# Altium integrated library Microchip PIC16 Part 1.IntLib: 1800 symbols (part 92 of 93)
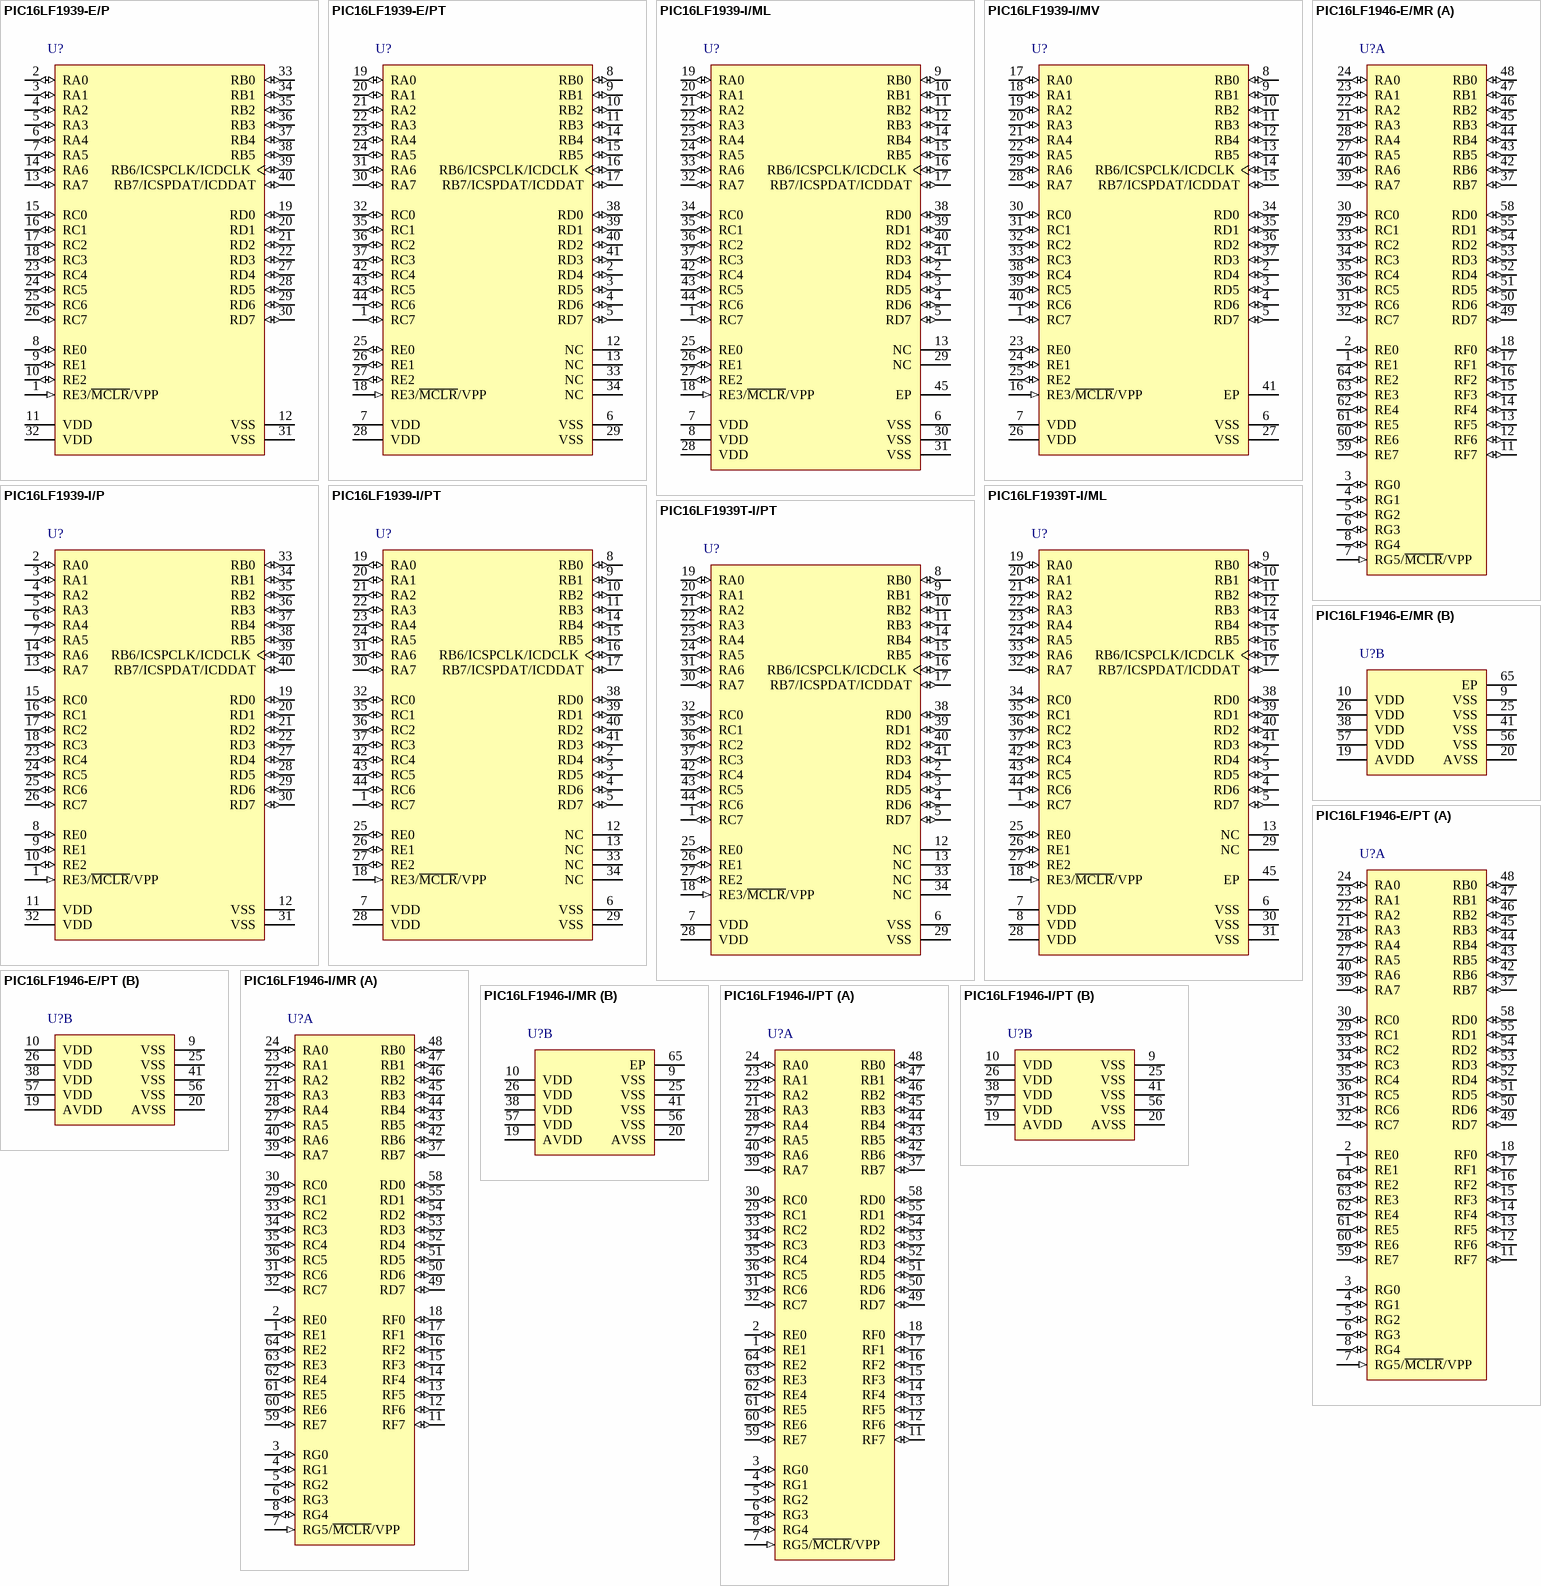
[diagram p190: symbols PIC16LF1939-E/P to PIC16LF1946-I/PT]

## PIC16LF1939-I/MV
designator U?
Flash-Based, 8-Bit CMOS Microcontroller with LCD Driver with nanoWatt XLP Technology, 32 MHz, 35 I/O, -40 to 85 degC, 40-pin UQFN (MV40), Tube; Manufacturer: Microchip; PartNumber: PIC16LF1939-I/MV; # of A/D Channels: 14; Digital Communication: 1 -A/E/USART, 1 -MSSP(SPI/I2C); EEPROM Data Memory (bytes): 256; I/O Pins: 35; Internal Oscillator: 32 MHz, 31 kHz; Max. CPU Speed MHz: 32; Memory Type: Flash; Operation Voltage Range: 1.8V - 3.6V; Program Memory KBytes: 28; Program Memory KWords: 16; RAM: 1024; Timers: 4 - 8-bit, 1 - 16-bit; DatasheetVersion: Rev. B; PackageVersion: C04-156A, 04/2013; PackageReference: UQFN-MV40; PackageDescription: 40-Lead Plastic Ultra Thin Quad Flat, No Lead Package, Body 5 x 5 mm, Pitch 0.4 mm; Supplier 1: Digi-Key; Supplier Part Number 1: PIC16LF1939-I/MV-ND; Supplier 2: Mouser; Supplier Part Number 2: 579-PIC16LF1939-I/MV; Packing: TUBE; Mounting Technology: Surface Mount; ComponentLink1Description: Datasheet; ComponentLink1URL: http://ww1.microchip.com/downloads/en/DeviceDoc/41574B.pdf; ComponentLink2Description: Package Specification; ComponentLink2URL: http://www.microchip.com/stellent/groups/techpub_sg/documents/packagingspec/en012702.pdf; ComponentLink3Description: URL Link1; ComponentLink3URL: Product URL:http://www.microchip.com/datasheet/PIC16F1939
footprint MCHP-UQFN-MV40_N (QFN, 40-Leads, Body 5x5mm, Pitch 0.4mm, Thermal Pad 3.7x3.7mm, IPC Medium Density)
footprint MCHP-UQFN-MV40_L (QFN, 40-Leads, Body 5x5mm, Pitch 0.4mm, Thermal Pad 3.7x3.7mm, IPC High Density)
footprint MCHP-UQFN-MV40_M (QFN, 40-Leads, Body 5x5mm, Pitch 0.4mm, Thermal Pad 3.7x3.7mm, IPC Low Density)
pins: 1 RC7 (io), 2 RD4 (io), 3 RD5 (io), 4 RD6 (io), 5 RD7 (io), 6 VSS (power) "Ground reference.", 7 VDD (power) "Positive supply.", 8 RB0 (io), 9 RB1 (io), 10 RB2 (io), 11 RB3 (io), 12 RB4 (io), 13 RB5 (io), 14 RB6/ICSPCLK/ICDCLK (io), 15 RB7/ICSPDAT/ICDDAT (io), 16 RE3/~{MCLR}/VPP (in), 17 RA0 (io), 18 RA1 (io), 19 RA2 (io), 20 RA3 (io), 21 RA4 (io), 22 RA5 (io), 23 RE0 (io), 24 RE1 (io), 25 RE2 (io), 26 VDD (power) "Positive supply.", 27 VSS (power) "Ground reference.", 28 RA7 (io), 29 RA6 (io), 30 RC0 (io), 31 RC1 (io), 32 RC2 (io), 33 RC3 (io), 34 RD0 (io), 35 RD1 (io), 36 RD2 (io), 37 RD3 (io), 38 RC4 (io), 39 RC5 (io), 40 RC6 (io), 41 EP

## PIC16LF1939-I/P
designator U?
Flash-Based, 8-Bit CMOS Microcontroller with LCD Driver with nanoWatt XLP Technology, 32 MHz, 35 I/O, -40 to 85 degC, 40-pin PDIP (P40), Tube; Manufacturer: Microchip; PartNumber: PIC16LF1939-I/P; # of A/D Channels: 14; Digital Communication: 1 -A/E/USART, 1 -MSSP(SPI/I2C); EEPROM Data Memory (bytes): 256; I/O Pins: 35; Internal Oscillator: 32 MHz, 31 kHz; Max. CPU Speed MHz: 32; Memory Type: Flash; Operation Voltage Range: 1.8V - 3.6V; Program Memory KBytes: 28; Program Memory KWords: 16; RAM: 1024; Timers: 4 - 8-bit, 1 - 16-bit; DatasheetVersion: Rev. B; PackageVersion: C04-016B, 04/2013; PackageReference: PDIP-P40; PackageDescription: 40-Lead Plastic Dual In-Line Package, Body 51.75 x 13.53 mm, Pitch 2.54 mm; Supplier 1: Digi-Key; Supplier Part Number 1: PIC16LF1939-I/P-ND; Supplier 2: Farnell; Supplier Part Number 2: 1770668; Supplier 3: Newark; Supplier Part Number 3: 08R1988; Supplier 4: Mouser; Supplier Part Number 4: 579-PIC16LF1939-I/P; Packing: TUBE; Mounting Technology: Through Hole; ComponentLink1Description: Datasheet; ComponentLink1URL: http://ww1.microchip.com/downloads/en/DeviceDoc/41574B.pdf; ComponentLink2Description: Package Specification; ComponentLink2URL: http://www.microchip.com/stellent/groups/techpub_sg/documents/packagingspec/en012702.pdf; ComponentLink3Description: URL Link1; ComponentLink3URL: Product URL:http://www.microchip.com/datasheet/PIC16F1939
footprint MCHP-PDIP-P40 (PDIP, 40-Leads, Body 51.75x13.53mm, Pitch 2.54mm)
pins: 1 RE3/~{MCLR}/VPP (in), 2 RA0 (io), 3 RA1 (io), 4 RA2 (io), 5 RA3 (io), 6 RA4 (io), 7 RA5 (io), 8 RE0 (io), 9 RE1 (io), 10 RE2 (io), 11 VDD (power) "Positive supply.", 12 VSS (power) "Ground reference.", 13 RA7 (io), 14 RA6 (io), 15 RC0 (io), 16 RC1 (io), 17 RC2 (io), 18 RC3 (io), 19 RD0 (io), 20 RD1 (io), 21 RD2 (io), 22 RD3 (io), 23 RC4 (io), 24 RC5 (io), 25 RC6 (io), 26 RC7 (io), 27 RD4 (io), 28 RD5 (io), 29 RD6 (io), 30 RD7 (io), 31 VSS (power) "Ground reference.", 32 VDD (power) "Positive supply.", 33 RB0 (io), 34 RB1 (io), 35 RB2 (io), 36 RB3 (io), 37 RB4 (io), 38 RB5 (io), 39 RB6/ICSPCLK/ICDCLK (io), 40 RB7/ICSPDAT/ICDDAT (io)

## PIC16LF1939-I/PT
designator U?
Flash-Based, 8-Bit CMOS Microcontroller with LCD Driver with nanoWatt XLP Technology, 32 MHz, 35 I/O, -40 to 85 degC, 44-pin TQFP (PT44), Tray; Manufacturer: Microchip; PartNumber: PIC16LF1939-I/PT; # of A/D Channels: 14; Digital Communication: 1 -A/E/USART, 1 -MSSP(SPI/I2C); EEPROM Data Memory (bytes): 256; I/O Pins: 35; Internal Oscillator: 32 MHz, 31 kHz; Max. CPU Speed MHz: 32; Memory Type: Flash; Operation Voltage Range: 1.8V - 3.6V; Program Memory KBytes: 28; Program Memory KWords: 16; RAM: 1024; Timers: 4 - 8-bit, 1 - 16-bit; DatasheetVersion: Rev. B; PackageVersion: C04-076B, 12/2012; PackageReference: TQFP-PT44; PackageDescription: 44-Lead Plastic Thin Quad Flatpack, 10 x 10 mm Body, 0.8 mm Pitch; Supplier 1: Digi-Key; Supplier Part Number 1: PIC16LF1939-I/PT-ND; Supplier 2: Farnell; Supplier Part Number 2: 1770669; Supplier 3: Farnell; Supplier Part Number 3: 1770669MPKG; Supplier 4: Newark; Supplier Part Number 4: 08R1989; Supplier 5: Mouser; Supplier Part Number 5: 579-PIC16LF1939-I/PT; Packing: TRAY; Mounting Technology: Surface Mount; ComponentLink1Description: Datasheet; ComponentLink1URL: http://ww1.microchip.com/downloads/en/DeviceDoc/41574B.pdf; ComponentLink2Description: Package Specification; ComponentLink2URL: http://www.microchip.com/stellent/groups/techpub_sg/documents/packagingspec/en012702.pdf; ComponentLink3Description: URL Link1; ComponentLink3URL: Product URL:http://www.microchip.com/datasheet/PIC16F1939
footprint MCHP-TQFP-PT44_N (QFN, 44-Leads, Body 10x10mm, Pitch 0.8mm, IPC Medium Density)
footprint MCHP-TQFP-PT44_L (QFN, 44-Leads, Body 10x10mm, Pitch 0.8mm, IPC High Density)
footprint MCHP-TQFP-PT44_M (QFN, 44-Leads, Body 10x10mm, Pitch 0.8mm, IPC Low Density)
pins: 1 RC7 (io), 2 RD4 (io), 3 RD5 (io), 4 RD6 (io), 5 RD7 (io), 6 VSS (power) "Ground reference for logic and I/O pins.", 7 VDD (power) "Positive supply for logic and I/O pins", 8 RB0 (io), 9 RB1 (io), 10 RB2 (io), 11 RB3 (io), 12 NC, 13 NC, 14 RB4 (io), 15 RB5 (io), 16 RB6/ICSPCLK/ICDCLK (io), 17 RB7/ICSPDAT/ICDDAT (io), 18 RE3/~{MCLR}/VPP (in), 19 RA0 (io), 20 RA1 (io), 21 RA2 (io), 22 RA3 (io), 23 RA4 (io), 24 RA5 (io), 25 RE0 (io), 26 RE1 (io), 27 RE2 (io), 28 VDD (power) "Positive supply for logic and I/O pins", 29 VSS (power) "Ground reference for logic and I/O pins.", 30 RA7 (io), 31 RA6 (io), 32 RC0 (io), 33 NC, 34 NC, 35 RC1 (io), 36 RC2 (io), 37 RC3 (io), 38 RD0 (io), 39 RD1 (io), 40 RD2 (io), 41 RD3 (io), 42 RC4 (io), 43 RC5 (io), 44 RC6 (io)

## PIC16LF1939T-I/ML
designator U?
Flash-Based, 8-Bit CMOS Microcontroller with LCD Driver with nanoWatt XLP Technology, 32 MHz, 35 I/O, -40 to 85 degC, 44-pin QFN (ML44), Tape and Reel; Manufacturer: Microchip; PartNumber: PIC16LF1939T-I/ML; # of A/D Channels: 14; Digital Communication: 1 -A/E/USART, 1 -MSSP(SPI/I2C); EEPROM Data Memory (bytes): 256; I/O Pins: 35; Internal Oscillator: 32 MHz, 31 kHz; Max. CPU Speed MHz: 32; Memory Type: Flash; Operation Voltage Range: 1.8V - 3.6V; Packing: T/R; Program Memory KBytes: 28; Program Memory KWords: 16; RAM: 1024; Timers: 4 - 8-bit, 1 - 16-bit; DatasheetVersion: Rev. B; PackageVersion: C04-103C, 12/2012; PackageReference: QFN-ML44; PackageDescription: 44-Lead Plastic Quad Flat, 8 x 8 mm Body, 0.65 mm Pitch; Supplier 1: Digi-Key; Supplier Part Number 1: PIC16LF1939T-I/ML-ND; Supplier 2: Mouser; Supplier Part Number 2: 579-PIC16LF1939T-IML; Mounting Technology: Surface Mount; ComponentLink1Description: Datasheet; ComponentLink1URL: http://ww1.microchip.com/downloads/en/DeviceDoc/41574B.pdf; ComponentLink2Description: Package Specification; ComponentLink2URL: http://www.microchip.com/stellent/groups/techpub_sg/documents/packagingspec/en012702.pdf; ComponentLink3Description: URL Link1; ComponentLink3URL: Product URL:http://www.microchip.com/datasheet/PIC16F1939
footprint MCHP-QFN-ML44_N (QFN, 44-Leads, Body 8x8mm, Pitch 0.65mm, Thermal Pad 6.425x6.425mm, IPC Medium Density)
footprint MCHP-QFN-ML44_L (QFN, 44-Leads, Body 8x8mm, Pitch 0.65mm, Thermal Pad 6.425x6.425mm, IPC High Density)
footprint MCHP-QFN-ML44_M (QFN, 44-Leads, Body 8x8mm, Pitch 0.65mm, Thermal Pad 6.425x6.425mm, IPC Low Density)
pins: 1 RC7 (io), 2 RD4 (io), 3 RD5 (io), 4 RD6 (io), 5 RD7 (io), 6 VSS (power) "Ground reference.", 7 VDD (power) "Positive supply.", 8 VDD (power) "Positive supply.", 9 RB0 (io), 10 RB1 (io), 11 RB2 (io), 12 RB3 (io), 13 NC, 14 RB4 (io), 15 RB5 (io), 16 RB6/ICSPCLK/ICDCLK (io), 17 RB7/ICSPDAT/ICDDAT (io), 18 RE3/~{MCLR}/VPP (in), 19 RA0 (io), 20 RA1 (io), 21 RA2 (io), 22 RA3 (io), 23 RA4 (io), 24 RA5 (io), 25 RE0 (io), 26 RE1 (io), 27 RE2 (io), 28 VDD (power) "Positive supply.", 29 NC, 30 VSS (power) "Ground reference.", 31 VSS (power) "Ground reference.", 32 RA7 (io), 33 RA6 (io), 34 RC0 (io), 35 RC1 (io), 36 RC2 (io), 37 RC3 (io), 38 RD0 (io), 39 RD1 (io), 40 RD2 (io), 41 RD3 (io), 42 RC4 (io), 43 RC5 (io), 44 RC6 (io), 45 EP

## PIC16LF1939T-I/PT
designator U?
Flash-Based, 8-Bit CMOS Microcontroller with LCD Driver with nanoWatt XLP Technology, 32 MHz, 35 I/O, -40 to 85 degC, 44-pin TQFP (PT44), Tape and Reel; Manufacturer: Microchip; PartNumber: PIC16LF1939T-I/PT; # of A/D Channels: 14; Digital Communication: 1 -A/E/USART, 1 -MSSP(SPI/I2C); EEPROM Data Memory (bytes): 256; I/O Pins: 35; Internal Oscillator: 32 MHz, 31 kHz; Max. CPU Speed MHz: 32; Memory Type: Flash; Operation Voltage Range: 1.8V - 3.6V; Packing: T/R; Program Memory KBytes: 28; Program Memory KWords: 16; RAM: 1024; Timers: 4 - 8-bit, 1 - 16-bit; DatasheetVersion: Rev. B; PackageVersion: C04-076B, 12/2012; PackageReference: TQFP-PT44; PackageDescription: 44-Lead Plastic Thin Quad Flatpack, 10 x 10 mm Body, 0.8 mm Pitch; Supplier 1: Digi-Key; Supplier Part Number 1: PIC16LF1939T-I/PT-ND; Supplier 2: Mouser; Supplier Part Number 2: 579-PIC16LF1939T-IPT; Mounting Technology: Surface Mount; ComponentLink1Description: Datasheet; ComponentLink1URL: http://ww1.microchip.com/downloads/en/DeviceDoc/41574B.pdf; ComponentLink2Description: Package Specification; ComponentLink2URL: http://www.microchip.com/stellent/groups/techpub_sg/documents/packagingspec/en012702.pdf; ComponentLink3Description: URL Link1; ComponentLink3URL: Product URL:http://www.microchip.com/datasheet/PIC16F1939
footprint MCHP-TQFP-PT44_N (QFN, 44-Leads, Body 10x10mm, Pitch 0.8mm, IPC Medium Density)
footprint MCHP-TQFP-PT44_L (QFN, 44-Leads, Body 10x10mm, Pitch 0.8mm, IPC High Density)
footprint MCHP-TQFP-PT44_M (QFN, 44-Leads, Body 10x10mm, Pitch 0.8mm, IPC Low Density)
pins: 1 RC7 (io), 2 RD4 (io), 3 RD5 (io), 4 RD6 (io), 5 RD7 (io), 6 VSS (power) "Ground reference for logic and I/O pins.", 7 VDD (power) "Positive supply for logic and I/O pins", 8 RB0 (io), 9 RB1 (io), 10 RB2 (io), 11 RB3 (io), 12 NC, 13 NC, 14 RB4 (io), 15 RB5 (io), 16 RB6/ICSPCLK/ICDCLK (io), 17 RB7/ICSPDAT/ICDDAT (io), 18 RE3/~{MCLR}/VPP (in), 19 RA0 (io), 20 RA1 (io), 21 RA2 (io), 22 RA3 (io), 23 RA4 (io), 24 RA5 (io), 25 RE0 (io), 26 RE1 (io), 27 RE2 (io), 28 VDD (power) "Positive supply for logic and I/O pins", 29 VSS (power) "Ground reference for logic and I/O pins.", 30 RA7 (io), 31 RA6 (io), 32 RC0 (io), 33 NC, 34 NC, 35 RC1 (io), 36 RC2 (io), 37 RC3 (io), 38 RD0 (io), 39 RD1 (io), 40 RD2 (io), 41 RD3 (io), 42 RC4 (io), 43 RC5 (io), 44 RC6 (io)

## PIC16LF1946-E/MR
designator U?
Flash-Based, 8-Bit CMOS Microcontroller with LCD Driver and nanoWatt XLP Technology, 32 MHz, 53 I/O, -40 to 125 degC, 64-pin QFN (MR64), Tube; Manufacturer: Microchip; PartNumber: PIC16LF1946-E/MR; # of A/D Channels: 17; Digital Communication: 2 -A/E/USART, 2 -MSSP(SPI/I2C); EEPROM Data Memory (bytes): 256; I/O Pins: 53; Internal Oscillator: 32 MHz, 31 kHz; Max. CPU Speed MHz: 32; Memory Type: Flash; Operation Voltage Range: 1.8V - 3.6V; Program Memory KBytes: 14; Program Memory KWords: 8; RAM: 512; Timers: 4 - 8-bit, 1 - 16-bit, 0 - 32-bit; DatasheetVersion: Rev. D; PackageVersion: C04-213A, 04/2013; PackageReference: QFN-MR64; PackageDescription: 64-Lead Plastic Quad Flat, No Lead Package, Body 9 x 9 mm, Pitch 0.5 mm; Supplier 1: Digi-Key; Supplier Part Number 1: PIC16LF1946-E/MR-ND; Supplier 2: Mouser; Supplier Part Number 2: 579-PIC16LF1946-E/MR; Packing: TUBE; RoHS: TRUE; Mounting Technology: Surface Mount; ComponentLink1Description: Datasheet; ComponentLink1URL: http://ww1.microchip.com/downloads/en/DeviceDoc/41414D.pdf; ComponentLink2Description: Package Specification; ComponentLink2URL: http://www.microchip.com/stellent/groups/techpub_sg/documents/packagingspec/en012702.pdf; ComponentLink3Description: URL Link1; ComponentLink3URL: Product URL:http://www.microchip.com/datasheet/PIC16F1946
footprint MCHP-QFN-MR64-7700X7700TP_N (QFN, 64-Leads, Body 9x9mm, Pitch 0.5mm, Thermal Pad 7.7x7.7mm, IPC Medium Density)
footprint MCHP-QFN-MR64-7700X7700TP_L (QFN, 64-Leads, Body 9x9mm, Pitch 0.5mm, Thermal Pad 7.7x7.7mm, IPC High Density)
footprint MCHP-QFN-MR64-7700X7700TP_M (QFN, 64-Leads, Body 9x9mm, Pitch 0.5mm, Thermal Pad 7.7x7.7mm, IPC Low Density)
part A pins: 1 RE1 (io), 2 RE0 (io), 3 RG0 (io), 4 RG1 (io), 5 RG2 (io), 6 RG3 (io), 7 RG5/~{MCLR}/VPP (in), 8 RG4 (io), 11 RF7 (io), 12 RF6 (io), 13 RF5 (io), 14 RF4 (io), 15 RF3 (io), 16 RF2 (io), 17 RF1 (io), 18 RF0 (io), 21 RA3 (io), 22 RA2 (io), 23 RA1 (io), 24 RA0 (io), 27 RA5 (io), 28 RA4 (io), 29 RC1 (io), 30 RC0 (io), 31 RC6 (io), 32 RC7 (io), 33 RC2 (io), 34 RC3 (io), 35 RC4 (io), 36 RC5 (io), 37 RB7 (io), 39 RA7 (io), 40 RA6 (io), 42 RB6 (io), 43 RB5 (io), 44 RB4 (io), 45 RB3 (io), 46 RB2 (io), 47 RB1 (io), 48 RB0 (io), 49 RD7 (io), 50 RD6 (io), 51 RD5 (io), 52 RD4 (io), 53 RD3 (io), 54 RD2 (io), 55 RD1 (io), 58 RD0 (io), 59 RE7 (io), 60 RE6 (io), 61 RE5 (io), 62 RE4 (io), 63 RE3 (io), 64 RE2 (io)
part B pins: 9 VSS (power) "Ground reference.", 10 VDD (power) "Positive supply.", 19 AVDD (power) "Analog positive supply.", 20 AVSS (power) "Analog ground reference.", 25 VSS (power) "Ground reference.", 26 VDD (power) "Positive supply.", 38 VDD (power) "Positive supply.", 41 VSS (power) "Ground reference.", 56 VSS (power) "Ground reference.", 57 VDD (power) "Positive supply.", 65 EP

## PIC16LF1946-E/PT
designator U?
Flash-Based, 8-Bit CMOS Microcontroller with LCD Driver and nanoWatt XLP Technology, 32 MHz, 53 I/O, -40 to 125 degC, 64-pin TQFP (PT64), Tray; Manufacturer: Microchip; PartNumber: PIC16LF1946-E/PT; # of A/D Channels: 17; Digital Communication: 2 -A/E/USART, 2 -MSSP(SPI/I2C); EEPROM Data Memory (bytes): 256; I/O Pins: 53; Internal Oscillator: 32 MHz, 31 kHz; Max. CPU Speed MHz: 32; Memory Type: Flash; Operation Voltage Range: 1.8V - 3.6V; Program Memory KBytes: 14; Program Memory KWords: 8; RAM: 512; Timers: 4 - 8-bit, 1 - 16-bit, 0 - 32-bit; DatasheetVersion: Rev. D; PackageVersion: C04-085B, 12/2012; PackageReference: TQFP-PT64; PackageDescription: 64-Lead Plastic Thin Quad FlatPack, 10 x 10 mm Body, 0.5 mm Pitch; Supplier 1: Digi-Key; Supplier Part Number 1: PIC16LF1946-E/PT-ND; Supplier 2: Mouser; Supplier Part Number 2: 579-PIC16LF1946-E/PT; Packing: TRAY; RoHS: TRUE; Mounting Technology: Surface Mount; ComponentLink1Description: Datasheet; ComponentLink1URL: http://ww1.microchip.com/downloads/en/DeviceDoc/41414D.pdf; ComponentLink2Description: Package Specification; ComponentLink2URL: http://www.microchip.com/stellent/groups/techpub_sg/documents/packagingspec/en012702.pdf; ComponentLink3Description: URL Link1; ComponentLink3URL: Product URL:http://www.microchip.com/datasheet/PIC16F1946
footprint MCHP-TQFP-PT64_N (TQFP, 64-Leads, Body 10x10mm, Pitch 0.5mm, IPC Medium Density)
footprint MCHP-TQFP-PT64_L (TQFP, 64-Leads, Body 10x10mm, Pitch 0.5mm, IPC High Density)
footprint MCHP-TQFP-PT64_M (TQFP, 64-Leads, Body 10x10mm, Pitch 0.5mm, IPC Low Density)
part A pins: 1 RE1 (io), 2 RE0 (io), 3 RG0 (io), 4 RG1 (io), 5 RG2 (io), 6 RG3 (io), 7 RG5/~{MCLR}/VPP (in), 8 RG4 (io), 11 RF7 (io), 12 RF6 (io), 13 RF5 (io), 14 RF4 (io), 15 RF3 (io), 16 RF2 (io), 17 RF1 (io), 18 RF0 (io), 21 RA3 (io), 22 RA2 (io), 23 RA1 (io), 24 RA0 (io), 27 RA5 (io), 28 RA4 (io), 29 RC1 (io), 30 RC0 (io), 31 RC6 (io), 32 RC7 (io), 33 RC2 (io), 34 RC3 (io), 35 RC4 (io), 36 RC5 (io), 37 RB7 (io), 39 RA7 (io), 40 RA6 (io), 42 RB6 (io), 43 RB5 (io), 44 RB4 (io), 45 RB3 (io), 46 RB2 (io), 47 RB1 (io), 48 RB0 (io), 49 RD7 (io), 50 RD6 (io), 51 RD5 (io), 52 RD4 (io), 53 RD3 (io), 54 RD2 (io), 55 RD1 (io), 58 RD0 (io), 59 RE7 (io), 60 RE6 (io), 61 RE5 (io), 62 RE4 (io), 63 RE3 (io), 64 RE2 (io)
part B pins: 9 VSS (power) "Ground reference.", 10 VDD (power) "Positive supply.", 19 AVDD (power) "Analog positive supply.", 20 AVSS (power) "Analog ground reference.", 25 VSS (power) "Ground reference.", 26 VDD (power) "Positive supply.", 38 VDD (power) "Positive supply.", 41 VSS (power) "Ground reference.", 56 VSS (power) "Ground reference.", 57 VDD (power) "Positive supply."

## PIC16LF1946-I/MR
designator U?
Flash-Based, 8-Bit CMOS Microcontroller with LCD Driver and nanoWatt XLP Technology, 32 MHz, 53 I/O, -40 to 85 degC, 64-pin QFN (MR64), Tube; Manufacturer: Microchip; PartNumber: PIC16LF1946-I/MR; # of A/D Channels: 17; Digital Communication: 2 -A/E/USART, 2 -MSSP(SPI/I2C); EEPROM Data Memory (bytes): 256; I/O Pins: 53; Internal Oscillator: 32 MHz, 31 kHz; Max. CPU Speed MHz: 32; Memory Type: Flash; Operation Voltage Range: 1.8V - 3.6V; Program Memory KBytes: 14; Program Memory KWords: 8; RAM: 512; Timers: 4 - 8-bit, 1 - 16-bit, 0 - 32-bit; DatasheetVersion: Rev. D; PackageVersion: C04-213A, 04/2013; PackageReference: QFN-MR64; PackageDescription: 64-Lead Plastic Quad Flat, No Lead Package, Body 9 x 9 mm, Pitch 0.5 mm; Supplier 1: Digi-Key; Supplier Part Number 1: PIC16LF1946-I/MR-ND; Supplier 2: Farnell; Supplier Part Number 2: 1840986; Supplier 3: Newark; Supplier Part Number 3: 73R8473; Supplier 4: Mouser; Supplier Part Number 4: 579-PIC16LF1946-I/MR; Packing: TUBE; RoHS: TRUE; Mounting Technology: Surface Mount; ComponentLink1Description: Datasheet; ComponentLink1URL: http://ww1.microchip.com/downloads/en/DeviceDoc/41414D.pdf; ComponentLink2Description: Package Specification; ComponentLink2URL: http://www.microchip.com/stellent/groups/techpub_sg/documents/packagingspec/en012702.pdf; ComponentLink3Description: URL Link1; ComponentLink3URL: Product URL:http://www.microchip.com/datasheet/PIC16F1946
footprint MCHP-QFN-MR64-7700X7700TP_N (QFN, 64-Leads, Body 9x9mm, Pitch 0.5mm, Thermal Pad 7.7x7.7mm, IPC Medium Density)
footprint MCHP-QFN-MR64-7700X7700TP_L (QFN, 64-Leads, Body 9x9mm, Pitch 0.5mm, Thermal Pad 7.7x7.7mm, IPC High Density)
footprint MCHP-QFN-MR64-7700X7700TP_M (QFN, 64-Leads, Body 9x9mm, Pitch 0.5mm, Thermal Pad 7.7x7.7mm, IPC Low Density)
part A pins: 1 RE1 (io), 2 RE0 (io), 3 RG0 (io), 4 RG1 (io), 5 RG2 (io), 6 RG3 (io), 7 RG5/~{MCLR}/VPP (in), 8 RG4 (io), 11 RF7 (io), 12 RF6 (io), 13 RF5 (io), 14 RF4 (io), 15 RF3 (io), 16 RF2 (io), 17 RF1 (io), 18 RF0 (io), 21 RA3 (io), 22 RA2 (io), 23 RA1 (io), 24 RA0 (io), 27 RA5 (io), 28 RA4 (io), 29 RC1 (io), 30 RC0 (io), 31 RC6 (io), 32 RC7 (io), 33 RC2 (io), 34 RC3 (io), 35 RC4 (io), 36 RC5 (io), 37 RB7 (io), 39 RA7 (io), 40 RA6 (io), 42 RB6 (io), 43 RB5 (io), 44 RB4 (io), 45 RB3 (io), 46 RB2 (io), 47 RB1 (io), 48 RB0 (io), 49 RD7 (io), 50 RD6 (io), 51 RD5 (io), 52 RD4 (io), 53 RD3 (io), 54 RD2 (io), 55 RD1 (io), 58 RD0 (io), 59 RE7 (io), 60 RE6 (io), 61 RE5 (io), 62 RE4 (io), 63 RE3 (io), 64 RE2 (io)
part B pins: 9 VSS (power) "Ground reference.", 10 VDD (power) "Positive supply.", 19 AVDD (power) "Analog positive supply.", 20 AVSS (power) "Analog ground reference.", 25 VSS (power) "Ground reference.", 26 VDD (power) "Positive supply.", 38 VDD (power) "Positive supply.", 41 VSS (power) "Ground reference.", 56 VSS (power) "Ground reference.", 57 VDD (power) "Positive supply.", 65 EP

## PIC16LF1946-I/PT
designator U?
Flash-Based, 8-Bit CMOS Microcontroller with LCD Driver and nanoWatt XLP Technology, 32 MHz, 53 I/O, -40 to 85 degC, 64-pin TQFP (PT64), Tray; Manufacturer: Microchip; PartNumber: PIC16LF1946-I/PT; # of A/D Channels: 17; Digital Communication: 2 -A/E/USART, 2 -MSSP(SPI/I2C); EEPROM Data Memory (bytes): 256; I/O Pins: 53; Internal Oscillator: 32 MHz, 31 kHz; Max. CPU Speed MHz: 32; Memory Type: Flash; Operation Voltage Range: 1.8V - 3.6V; Program Memory KBytes: 14; Program Memory KWords: 8; RAM: 512; Timers: 4 - 8-bit, 1 - 16-bit, 0 - 32-bit; DatasheetVersion: Rev. D; PackageVersion: C04-085B, 12/2012; PackageReference: TQFP-PT64; PackageDescription: 64-Lead Plastic Thin Quad FlatPack, 10 x 10 mm Body, 0.5 mm Pitch; Supplier 1: Digi-Key; Supplier Part Number 1: PIC16LF1946-I/PT-ND; Supplier 2: Farnell; Supplier Part Number 2: 1770670MPKG; Supplier 3: Farnell; Supplier Part Number 3: 1770670; Supplier 4: Newark; Supplier Part Number 4: 14R8981; Supplier 5: Mouser; Supplier Part Number 5: 579-PIC16LF1946-I/PT; Packing: TRAY; RoHS: TRUE; Mounting Technology: Surface Mount; ComponentLink1Description: Datasheet; ComponentLink1URL: http://ww1.microchip.com/downloads/en/DeviceDoc/41414D.pdf; ComponentLink2Description: Package Specification; ComponentLink2URL: http://www.microchip.com/stellent/groups/techpub_sg/documents/packagingspec/en012702.pdf; ComponentLink3Description: URL Link1; ComponentLink3URL: Product URL:http://www.microchip.com/datasheet/PIC16F1946
footprint MCHP-TQFP-PT64_N (TQFP, 64-Leads, Body 10x10mm, Pitch 0.5mm, IPC Medium Density)
footprint MCHP-TQFP-PT64_L (TQFP, 64-Leads, Body 10x10mm, Pitch 0.5mm, IPC High Density)
footprint MCHP-TQFP-PT64_M (TQFP, 64-Leads, Body 10x10mm, Pitch 0.5mm, IPC Low Density)
part A pins: 1 RE1 (io), 2 RE0 (io), 3 RG0 (io), 4 RG1 (io), 5 RG2 (io), 6 RG3 (io), 7 RG5/~{MCLR}/VPP (in), 8 RG4 (io), 11 RF7 (io), 12 RF6 (io), 13 RF5 (io), 14 RF4 (io), 15 RF3 (io), 16 RF2 (io), 17 RF1 (io), 18 RF0 (io), 21 RA3 (io), 22 RA2 (io), 23 RA1 (io), 24 RA0 (io), 27 RA5 (io), 28 RA4 (io), 29 RC1 (io), 30 RC0 (io), 31 RC6 (io), 32 RC7 (io), 33 RC2 (io), 34 RC3 (io), 35 RC4 (io), 36 RC5 (io), 37 RB7 (io), 39 RA7 (io), 40 RA6 (io), 42 RB6 (io), 43 RB5 (io), 44 RB4 (io), 45 RB3 (io), 46 RB2 (io), 47 RB1 (io), 48 RB0 (io), 49 RD7 (io), 50 RD6 (io), 51 RD5 (io), 52 RD4 (io), 53 RD3 (io), 54 RD2 (io), 55 RD1 (io), 58 RD0 (io), 59 RE7 (io), 60 RE6 (io), 61 RE5 (io), 62 RE4 (io), 63 RE3 (io), 64 RE2 (io)
part B pins: 9 VSS (power) "Ground reference.", 10 VDD (power) "Positive supply.", 19 AVDD (power) "Analog positive supply.", 20 AVSS (power) "Analog ground reference.", 25 VSS (power) "Ground reference.", 26 VDD (power) "Positive supply.", 38 VDD (power) "Positive supply.", 41 VSS (power) "Ground reference.", 56 VSS (power) "Ground reference.", 57 VDD (power) "Positive supply."

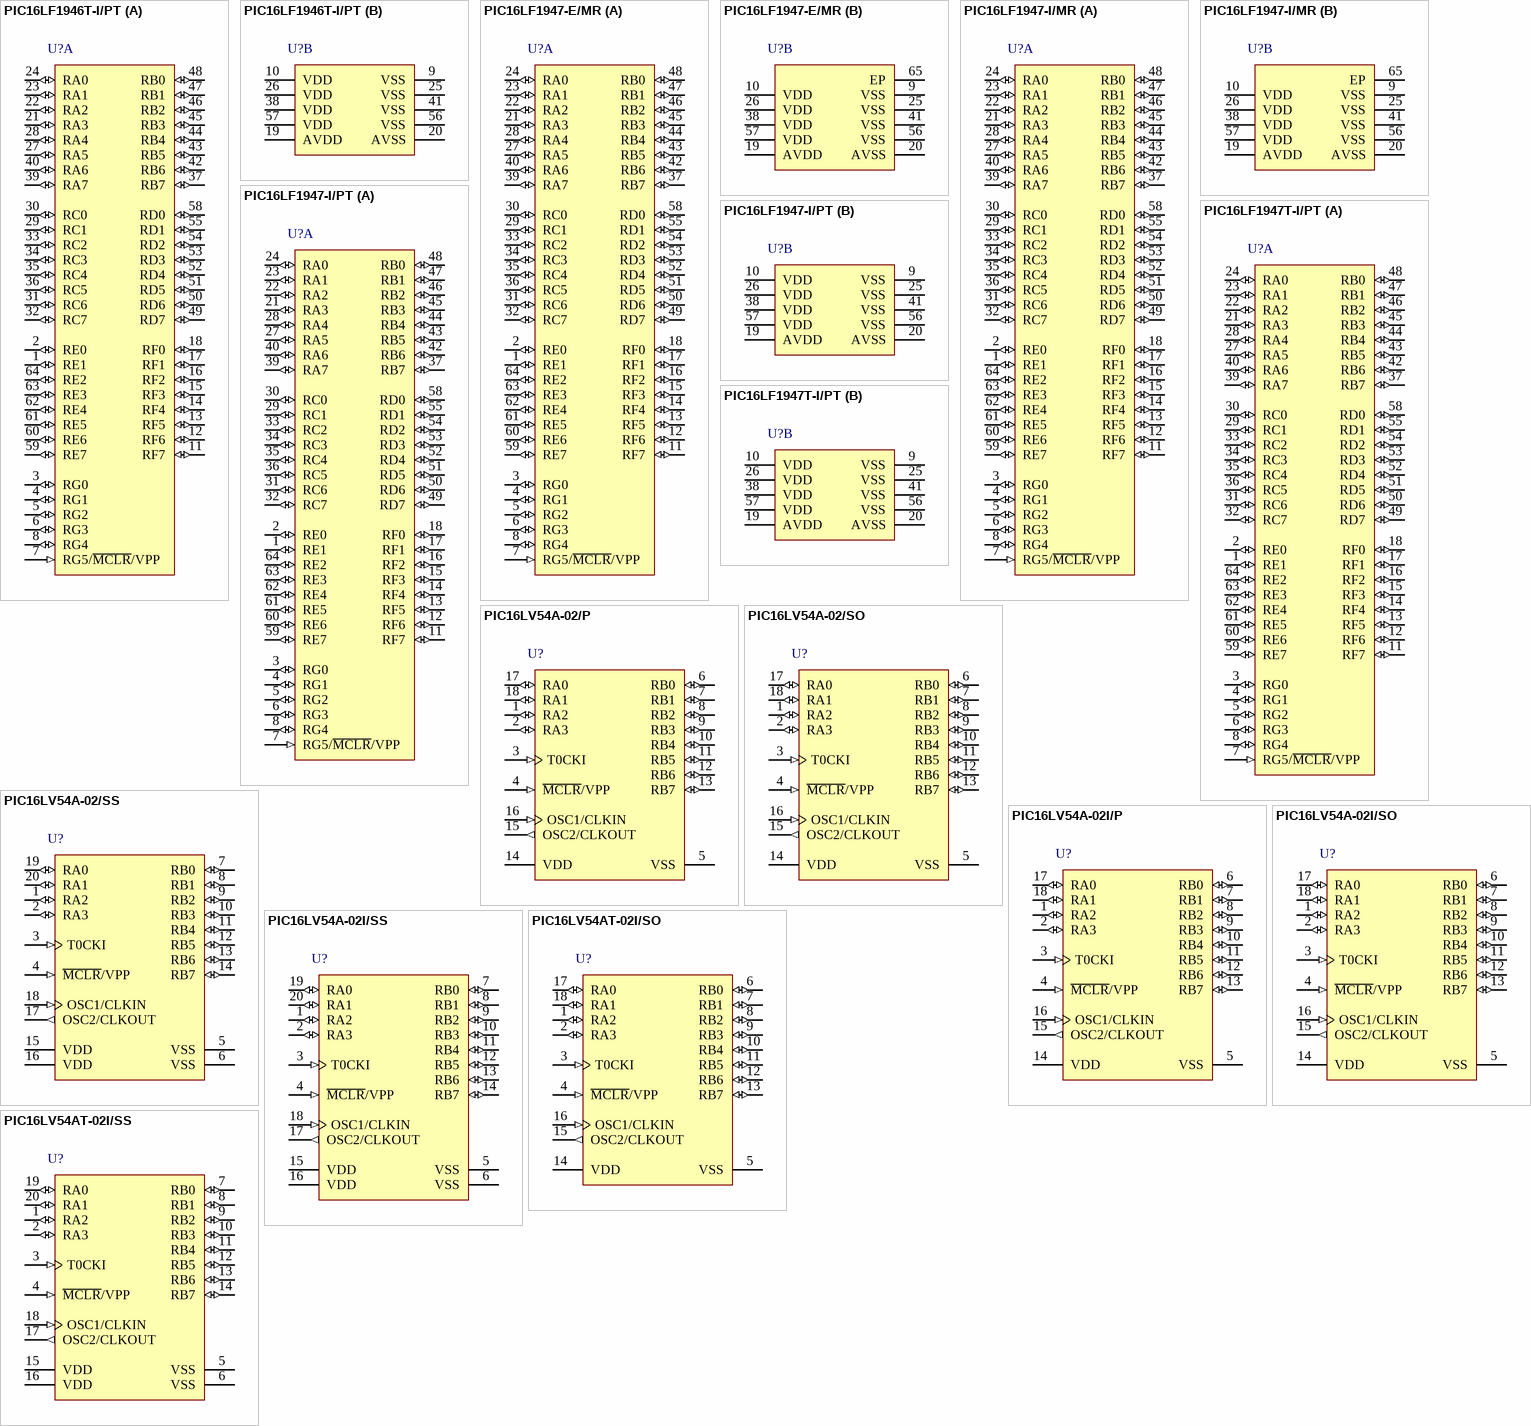
[diagram p100: symbols PIC16LF1946T-I/PT to PIC16LV54AT-02I/SS]

## PIC16LF1946T-I/PT
designator U?
Flash-Based, 8-Bit CMOS Microcontroller with LCD Driver and nanoWatt XLP Technology, 32 MHz, 53 I/O, -40 to 85 degC, 64-pin TQFP (PT64), Tape and Reel; Manufacturer: Microchip; PartNumber: PIC16LF1946T-I/PT; # of A/D Channels: 17; Digital Communication: 2 -A/E/USART, 2 -MSSP(SPI/I2C); EEPROM Data Memory (bytes): 256; I/O Pins: 53; Internal Oscillator: 32 MHz, 31 kHz; Max. CPU Speed MHz: 32; Memory Type: Flash; Operation Voltage Range: 1.8V - 3.6V; Packing: T/R; Program Memory KBytes: 14; Program Memory KWords: 8; RAM: 512; Timers: 4 - 8-bit, 1 - 16-bit, 0 - 32-bit; DatasheetVersion: Rev. D; PackageVersion: C04-085B, 12/2012; PackageReference: TQFP-PT64; PackageDescription: 64-Lead Plastic Thin Quad FlatPack, 10 x 10 mm Body, 0.5 mm Pitch; Supplier 1: Digi-Key; Supplier Part Number 1: PIC16LF1946T-I/PT-ND; Supplier 2: Mouser; Supplier Part Number 2: 579-PIC16LF1946T-IPT; RoHS: TRUE; Mounting Technology: Surface Mount; ComponentLink1Description: Datasheet; ComponentLink1URL: http://ww1.microchip.com/downloads/en/DeviceDoc/41414D.pdf; ComponentLink2Description: Package Specification; ComponentLink2URL: http://www.microchip.com/stellent/groups/techpub_sg/documents/packagingspec/en012702.pdf; ComponentLink3Description: URL Link1; ComponentLink3URL: Product URL:http://www.microchip.com/datasheet/PIC16F1946
footprint MCHP-TQFP-PT64_N (TQFP, 64-Leads, Body 10x10mm, Pitch 0.5mm, IPC Medium Density)
footprint MCHP-TQFP-PT64_L (TQFP, 64-Leads, Body 10x10mm, Pitch 0.5mm, IPC High Density)
footprint MCHP-TQFP-PT64_M (TQFP, 64-Leads, Body 10x10mm, Pitch 0.5mm, IPC Low Density)
part A pins: 1 RE1 (io), 2 RE0 (io), 3 RG0 (io), 4 RG1 (io), 5 RG2 (io), 6 RG3 (io), 7 RG5/~{MCLR}/VPP (in), 8 RG4 (io), 11 RF7 (io), 12 RF6 (io), 13 RF5 (io), 14 RF4 (io), 15 RF3 (io), 16 RF2 (io), 17 RF1 (io), 18 RF0 (io), 21 RA3 (io), 22 RA2 (io), 23 RA1 (io), 24 RA0 (io), 27 RA5 (io), 28 RA4 (io), 29 RC1 (io), 30 RC0 (io), 31 RC6 (io), 32 RC7 (io), 33 RC2 (io), 34 RC3 (io), 35 RC4 (io), 36 RC5 (io), 37 RB7 (io), 39 RA7 (io), 40 RA6 (io), 42 RB6 (io), 43 RB5 (io), 44 RB4 (io), 45 RB3 (io), 46 RB2 (io), 47 RB1 (io), 48 RB0 (io), 49 RD7 (io), 50 RD6 (io), 51 RD5 (io), 52 RD4 (io), 53 RD3 (io), 54 RD2 (io), 55 RD1 (io), 58 RD0 (io), 59 RE7 (io), 60 RE6 (io), 61 RE5 (io), 62 RE4 (io), 63 RE3 (io), 64 RE2 (io)
part B pins: 9 VSS (power) "Ground reference.", 10 VDD (power) "Positive supply.", 19 AVDD (power) "Analog positive supply.", 20 AVSS (power) "Analog ground reference.", 25 VSS (power) "Ground reference.", 26 VDD (power) "Positive supply.", 38 VDD (power) "Positive supply.", 41 VSS (power) "Ground reference.", 56 VSS (power) "Ground reference.", 57 VDD (power) "Positive supply."

## PIC16LF1947-E/MR
designator U?
Flash-Based, 8-Bit CMOS Microcontroller with LCD Driver and nanoWatt XLP Technology, 32 MHz, 53 I/O, -40 to 125 degC, 64-pin QFN (MR64), Tube; Manufacturer: Microchip; PartNumber: PIC16LF1947-E/MR; # of A/D Channels: 17; Digital Communication: 2 -A/E/USART, 2 -MSSP(SPI/I2C); EEPROM Data Memory (bytes): 256; I/O Pins: 53; Internal Oscillator: 32 MHz, 31 kHz; Max. CPU Speed MHz: 32; Memory Type: Flash; Operation Voltage Range: 1.8V - 3.6V; Program Memory KBytes: 28; Program Memory KWords: 16; RAM: 1024; Timers: 4 - 8-bit, 1 - 16-bit, 0 - 32-bit; DatasheetVersion: Rev. D; PackageVersion: C04-213A, 04/2013; PackageReference: QFN-MR64; PackageDescription: 64-Lead Plastic Quad Flat, No Lead Package, Body 9 x 9 mm, Pitch 0.5 mm; Supplier 1: Digi-Key; Supplier Part Number 1: PIC16LF1947-E/MR-ND; Supplier 2: Mouser; Supplier Part Number 2: 579-PIC16LF1947-E/MR; Packing: TUBE; Mounting Technology: Surface Mount; ComponentLink1Description: Datasheet; ComponentLink1URL: http://ww1.microchip.com/downloads/en/DeviceDoc/41414D.pdf; ComponentLink2Description: Package Specification; ComponentLink2URL: http://www.microchip.com/stellent/groups/techpub_sg/documents/packagingspec/en012702.pdf; ComponentLink3Description: URL Link1; ComponentLink3URL: Product URL:http://www.microchip.com/datasheet/PIC16F1947
footprint MCHP-QFN-MR64-7700X7700TP_N (QFN, 64-Leads, Body 9x9mm, Pitch 0.5mm, Thermal Pad 7.7x7.7mm, IPC Medium Density)
footprint MCHP-QFN-MR64-7700X7700TP_L (QFN, 64-Leads, Body 9x9mm, Pitch 0.5mm, Thermal Pad 7.7x7.7mm, IPC High Density)
footprint MCHP-QFN-MR64-7700X7700TP_M (QFN, 64-Leads, Body 9x9mm, Pitch 0.5mm, Thermal Pad 7.7x7.7mm, IPC Low Density)
part A pins: 1 RE1 (io), 2 RE0 (io), 3 RG0 (io), 4 RG1 (io), 5 RG2 (io), 6 RG3 (io), 7 RG5/~{MCLR}/VPP (in), 8 RG4 (io), 11 RF7 (io), 12 RF6 (io), 13 RF5 (io), 14 RF4 (io), 15 RF3 (io), 16 RF2 (io), 17 RF1 (io), 18 RF0 (io), 21 RA3 (io), 22 RA2 (io), 23 RA1 (io), 24 RA0 (io), 27 RA5 (io), 28 RA4 (io), 29 RC1 (io), 30 RC0 (io), 31 RC6 (io), 32 RC7 (io), 33 RC2 (io), 34 RC3 (io), 35 RC4 (io), 36 RC5 (io), 37 RB7 (io), 39 RA7 (io), 40 RA6 (io), 42 RB6 (io), 43 RB5 (io), 44 RB4 (io), 45 RB3 (io), 46 RB2 (io), 47 RB1 (io), 48 RB0 (io), 49 RD7 (io), 50 RD6 (io), 51 RD5 (io), 52 RD4 (io), 53 RD3 (io), 54 RD2 (io), 55 RD1 (io), 58 RD0 (io), 59 RE7 (io), 60 RE6 (io), 61 RE5 (io), 62 RE4 (io), 63 RE3 (io), 64 RE2 (io)
part B pins: 9 VSS (power) "Ground reference.", 10 VDD (power) "Positive supply.", 19 AVDD (power) "Analog positive supply.", 20 AVSS (power) "Analog ground reference.", 25 VSS (power) "Ground reference.", 26 VDD (power) "Positive supply.", 38 VDD (power) "Positive supply.", 41 VSS (power) "Ground reference.", 56 VSS (power) "Ground reference.", 57 VDD (power) "Positive supply.", 65 EP

## PIC16LF1947-I/MR
designator U?
Flash-Based, 8-Bit CMOS Microcontroller with LCD Driver and nanoWatt XLP Technology, 32 MHz, 53 I/O, -40 to 85 degC, 64-pin QFN (MR64), Tube; Manufacturer: Microchip; PartNumber: PIC16LF1947-I/MR; # of A/D Channels: 17; Digital Communication: 2 -A/E/USART, 2 -MSSP(SPI/I2C); EEPROM Data Memory (bytes): 256; I/O Pins: 53; Internal Oscillator: 32 MHz, 31 kHz; Max. CPU Speed MHz: 32; Memory Type: Flash; Operation Voltage Range: 1.8V - 3.6V; Program Memory KBytes: 28; Program Memory KWords: 16; RAM: 1024; Timers: 4 - 8-bit, 1 - 16-bit, 0 - 32-bit; DatasheetVersion: Rev. D; PackageVersion: C04-213A, 04/2013; PackageReference: QFN-MR64; PackageDescription: 64-Lead Plastic Quad Flat, No Lead Package, Body 9 x 9 mm, Pitch 0.5 mm; Supplier 1: Digi-Key; Supplier Part Number 1: PIC16LF1947-I/MR-ND; Supplier 2: Farnell; Supplier Part Number 2: 1840987; Supplier 3: Newark; Supplier Part Number 3: 73R8476; Supplier 4: Mouser; Supplier Part Number 4: 579-PIC16LF1947-I/MR; Packing: TUBE; Mounting Technology: Surface Mount; ComponentLink1Description: Datasheet; ComponentLink1URL: http://ww1.microchip.com/downloads/en/DeviceDoc/41414D.pdf; ComponentLink2Description: Package Specification; ComponentLink2URL: http://www.microchip.com/stellent/groups/techpub_sg/documents/packagingspec/en012702.pdf; ComponentLink3Description: URL Link1; ComponentLink3URL: Product URL:http://www.microchip.com/datasheet/PIC16F1947
footprint MCHP-QFN-MR64-7700X7700TP_N (QFN, 64-Leads, Body 9x9mm, Pitch 0.5mm, Thermal Pad 7.7x7.7mm, IPC Medium Density)
footprint MCHP-QFN-MR64-7700X7700TP_L (QFN, 64-Leads, Body 9x9mm, Pitch 0.5mm, Thermal Pad 7.7x7.7mm, IPC High Density)
footprint MCHP-QFN-MR64-7700X7700TP_M (QFN, 64-Leads, Body 9x9mm, Pitch 0.5mm, Thermal Pad 7.7x7.7mm, IPC Low Density)
part A pins: 1 RE1 (io), 2 RE0 (io), 3 RG0 (io), 4 RG1 (io), 5 RG2 (io), 6 RG3 (io), 7 RG5/~{MCLR}/VPP (in), 8 RG4 (io), 11 RF7 (io), 12 RF6 (io), 13 RF5 (io), 14 RF4 (io), 15 RF3 (io), 16 RF2 (io), 17 RF1 (io), 18 RF0 (io), 21 RA3 (io), 22 RA2 (io), 23 RA1 (io), 24 RA0 (io), 27 RA5 (io), 28 RA4 (io), 29 RC1 (io), 30 RC0 (io), 31 RC6 (io), 32 RC7 (io), 33 RC2 (io), 34 RC3 (io), 35 RC4 (io), 36 RC5 (io), 37 RB7 (io), 39 RA7 (io), 40 RA6 (io), 42 RB6 (io), 43 RB5 (io), 44 RB4 (io), 45 RB3 (io), 46 RB2 (io), 47 RB1 (io), 48 RB0 (io), 49 RD7 (io), 50 RD6 (io), 51 RD5 (io), 52 RD4 (io), 53 RD3 (io), 54 RD2 (io), 55 RD1 (io), 58 RD0 (io), 59 RE7 (io), 60 RE6 (io), 61 RE5 (io), 62 RE4 (io), 63 RE3 (io), 64 RE2 (io)
part B pins: 9 VSS (power) "Ground reference.", 10 VDD (power) "Positive supply.", 19 AVDD (power) "Analog positive supply.", 20 AVSS (power) "Analog ground reference.", 25 VSS (power) "Ground reference.", 26 VDD (power) "Positive supply.", 38 VDD (power) "Positive supply.", 41 VSS (power) "Ground reference.", 56 VSS (power) "Ground reference.", 57 VDD (power) "Positive supply.", 65 EP

## PIC16LF1947-I/PT
designator U?
Flash-Based, 8-Bit CMOS Microcontroller with LCD Driver and nanoWatt XLP Technology, 32 MHz, 53 I/O, -40 to 85 degC, 64-pin TQFP (PT64), Tray; Manufacturer: Microchip; PartNumber: PIC16LF1947-I/PT; # of A/D Channels: 17; Digital Communication: 2 -A/E/USART, 2 -MSSP(SPI/I2C); EEPROM Data Memory (bytes): 256; I/O Pins: 53; Internal Oscillator: 32 MHz, 31 kHz; Max. CPU Speed MHz: 32; Memory Type: Flash; Operation Voltage Range: 1.8V - 3.6V; Program Memory KBytes: 28; Program Memory KWords: 16; RAM: 1024; Timers: 4 - 8-bit, 1 - 16-bit, 0 - 32-bit; DatasheetVersion: Rev. D; PackageVersion: C04-085B, 12/2012; PackageReference: TQFP-PT64; PackageDescription: 64-Lead Plastic Thin Quad FlatPack, 10 x 10 mm Body, 0.5 mm Pitch; Supplier 1: Digi-Key; Supplier Part Number 1: PIC16LF1947-I/PT-ND; Supplier 2: Farnell; Supplier Part Number 2: 1770671MPKG; Supplier 3: Farnell; Supplier Part Number 3: 1770671; Supplier 4: Newark; Supplier Part Number 4: 14R8984; Supplier 5: Mouser; Supplier Part Number 5: 579-PIC16LF1947-I/PT; Packing: TRAY; Mounting Technology: Surface Mount; ComponentLink1Description: Datasheet; ComponentLink1URL: http://ww1.microchip.com/downloads/en/DeviceDoc/41414D.pdf; ComponentLink2Description: Package Specification; ComponentLink2URL: http://www.microchip.com/stellent/groups/techpub_sg/documents/packagingspec/en012702.pdf; ComponentLink3Description: URL Link1; ComponentLink3URL: Product URL:http://www.microchip.com/datasheet/PIC16F1947
footprint MCHP-TQFP-PT64_N (TQFP, 64-Leads, Body 10x10mm, Pitch 0.5mm, IPC Medium Density)
footprint MCHP-TQFP-PT64_L (TQFP, 64-Leads, Body 10x10mm, Pitch 0.5mm, IPC High Density)
footprint MCHP-TQFP-PT64_M (TQFP, 64-Leads, Body 10x10mm, Pitch 0.5mm, IPC Low Density)
part A pins: 1 RE1 (io), 2 RE0 (io), 3 RG0 (io), 4 RG1 (io), 5 RG2 (io), 6 RG3 (io), 7 RG5/~{MCLR}/VPP (in), 8 RG4 (io), 11 RF7 (io), 12 RF6 (io), 13 RF5 (io), 14 RF4 (io), 15 RF3 (io), 16 RF2 (io), 17 RF1 (io), 18 RF0 (io), 21 RA3 (io), 22 RA2 (io), 23 RA1 (io), 24 RA0 (io), 27 RA5 (io), 28 RA4 (io), 29 RC1 (io), 30 RC0 (io), 31 RC6 (io), 32 RC7 (io), 33 RC2 (io), 34 RC3 (io), 35 RC4 (io), 36 RC5 (io), 37 RB7 (io), 39 RA7 (io), 40 RA6 (io), 42 RB6 (io), 43 RB5 (io), 44 RB4 (io), 45 RB3 (io), 46 RB2 (io), 47 RB1 (io), 48 RB0 (io), 49 RD7 (io), 50 RD6 (io), 51 RD5 (io), 52 RD4 (io), 53 RD3 (io), 54 RD2 (io), 55 RD1 (io), 58 RD0 (io), 59 RE7 (io), 60 RE6 (io), 61 RE5 (io), 62 RE4 (io), 63 RE3 (io), 64 RE2 (io)
part B pins: 9 VSS (power) "Ground reference.", 10 VDD (power) "Positive supply.", 19 AVDD (power) "Analog positive supply.", 20 AVSS (power) "Analog ground reference.", 25 VSS (power) "Ground reference.", 26 VDD (power) "Positive supply.", 38 VDD (power) "Positive supply.", 41 VSS (power) "Ground reference.", 56 VSS (power) "Ground reference.", 57 VDD (power) "Positive supply."

## PIC16LF1947T-I/PT
designator U?
Flash-Based, 8-Bit CMOS Microcontroller with LCD Driver and nanoWatt XLP Technology, 32 MHz, 53 I/O, -40 to 85 degC, 64-pin TQFP (PT64), Tape and Reel; Manufacturer: Microchip; PartNumber: PIC16LF1947T-I/PT; # of A/D Channels: 17; Digital Communication: 2 -A/E/USART, 2 -MSSP(SPI/I2C); EEPROM Data Memory (bytes): 256; I/O Pins: 53; Internal Oscillator: 32 MHz, 31 kHz; Max. CPU Speed MHz: 32; Memory Type: Flash; Operation Voltage Range: 1.8V - 3.6V; Packing: T/R; Program Memory KBytes: 28; Program Memory KWords: 16; RAM: 1024; Timers: 4 - 8-bit, 1 - 16-bit, 0 - 32-bit; DatasheetVersion: Rev. D; PackageVersion: C04-085B, 12/2012; PackageReference: TQFP-PT64; PackageDescription: 64-Lead Plastic Thin Quad FlatPack, 10 x 10 mm Body, 0.5 mm Pitch; Supplier 1: Digi-Key; Supplier Part Number 1: PIC16LF1947T-I/PT-ND; Supplier 2: Mouser; Supplier Part Number 2: 579-PIC16LF1947T-IPT; Mounting Technology: Surface Mount; ComponentLink1Description: Datasheet; ComponentLink1URL: http://ww1.microchip.com/downloads/en/DeviceDoc/41414D.pdf; ComponentLink2Description: Package Specification; ComponentLink2URL: http://www.microchip.com/stellent/groups/techpub_sg/documents/packagingspec/en012702.pdf; ComponentLink3Description: URL Link1; ComponentLink3URL: Product URL:http://www.microchip.com/datasheet/PIC16F1947
footprint MCHP-TQFP-PT64_N (TQFP, 64-Leads, Body 10x10mm, Pitch 0.5mm, IPC Medium Density)
footprint MCHP-TQFP-PT64_L (TQFP, 64-Leads, Body 10x10mm, Pitch 0.5mm, IPC High Density)
footprint MCHP-TQFP-PT64_M (TQFP, 64-Leads, Body 10x10mm, Pitch 0.5mm, IPC Low Density)
part A pins: 1 RE1 (io), 2 RE0 (io), 3 RG0 (io), 4 RG1 (io), 5 RG2 (io), 6 RG3 (io), 7 RG5/~{MCLR}/VPP (in), 8 RG4 (io), 11 RF7 (io), 12 RF6 (io), 13 RF5 (io), 14 RF4 (io), 15 RF3 (io), 16 RF2 (io), 17 RF1 (io), 18 RF0 (io), 21 RA3 (io), 22 RA2 (io), 23 RA1 (io), 24 RA0 (io), 27 RA5 (io), 28 RA4 (io), 29 RC1 (io), 30 RC0 (io), 31 RC6 (io), 32 RC7 (io), 33 RC2 (io), 34 RC3 (io), 35 RC4 (io), 36 RC5 (io), 37 RB7 (io), 39 RA7 (io), 40 RA6 (io), 42 RB6 (io), 43 RB5 (io), 44 RB4 (io), 45 RB3 (io), 46 RB2 (io), 47 RB1 (io), 48 RB0 (io), 49 RD7 (io), 50 RD6 (io), 51 RD5 (io), 52 RD4 (io), 53 RD3 (io), 54 RD2 (io), 55 RD1 (io), 58 RD0 (io), 59 RE7 (io), 60 RE6 (io), 61 RE5 (io), 62 RE4 (io), 63 RE3 (io), 64 RE2 (io)
part B pins: 9 VSS (power) "Ground reference.", 10 VDD (power) "Positive supply.", 19 AVDD (power) "Analog positive supply.", 20 AVSS (power) "Analog ground reference.", 25 VSS (power) "Ground reference.", 26 VDD (power) "Positive supply.", 38 VDD (power) "Positive supply.", 41 VSS (power) "Ground reference.", 56 VSS (power) "Ground reference.", 57 VDD (power) "Positive supply."

## PIC16LV54A-02/P
designator U?
EPROM / ROM-Based 8-Bit CMOS Microcontroller Series, 2 MHz, 12 I/O, 0 to 70 degC, 18-pin PDIP (P18), Tube; Manufacturer: Microchip; PartNumber: PIC16LV54A-02/P; Digital Communication: 0 -UART, 0 -A/E/USART, 0 -SPI, 0 -I2C; I/O Pins: 12; Max. CPU Speed MHz: 2; Memory Type: OTP; Operation Voltage Range: 3V - 6.25V; Program Memory KBytes: 0.75; Program Memory KWords: 0.5; RAM: 25; Timers: 1 - 8-bit, 0 - 16-bit, 0 - 32-bit; DatasheetVersion: Rev. KE; PackageVersion: C04-007B, 12/2012; PackageReference: PDIP-P18; PackageDescription: 18-Lead Plastic Dual In-Line, Row Spacing 7.62 mm, 22.86 x 6.6 mm Body, 2.54 mm Pitch; Supplier 1: Digi-Key; Supplier Part Number 1: PIC16LV54A-02/P-ND; Supplier 2: Mouser; Supplier Part Number 2: 579-PIC16LV54A-02/P; Packing: TUBE; Mounting Technology: Through Hole; ComponentLink1Description: Datasheet; ComponentLink1URL: http://ww1.microchip.com/downloads/en/DeviceDoc/30453E.pdf; ComponentLink2Description: Package Specification; ComponentLink2URL: http://www.microchip.com/stellent/groups/techpub_sg/documents/packagingspec/en012702.pdf; ComponentLink3Description: URL Link1; ComponentLink3URL: Product URL:http://www.microchip.com/datasheet/PIC16C54A
footprint MCHP-PDIP-P18 (DIP, 18-Leads, Body 22.83x6.604mm, Pitch 2.54mm)
pins: 1 RA2 (io) "Bi-directional I/O port", 2 RA3 (io) "Bi-directional I/O port", 3 T0CKI (in) "Clock input to Timer0. Must be tied to VSS or VDD, if not in use, to reduce current consumption.", 4 ~{MCLR}/VPP (in), 5 VSS (power) "Ground reference for logic and I/O pins.", 6 RB0 (io) "Bi-directional I/O port", 7 RB1 (io) "Bi-directional I/O port", 8 RB2 (io) "Bi-directional I/O port", 9 RB3 (io) "Bi-directional I/O port", 10 RB4 (io) "Bi-directional I/O port", 11 RB5 (io) "Bi-directional I/O port", 12 RB6 (io) "Bi-directional I/O port", 13 RB7 (io) "Bi-directional I/O port", 14 VDD (power) "Positive supply for logic and I/O pins.", 15 OSC2/CLKOUT (out), 16 OSC1/CLKIN (in), 17 RA0 (io) "Bi-directional I/O port", 18 RA1 (io) "Bi-directional I/O port"

## PIC16LV54A-02/SO
designator U?
EPROM / ROM-Based 8-Bit CMOS Microcontroller Series, 2 MHz, 12 I/O, 0 to 70 degC, 18-pin SOIC (SO18), Tube; Manufacturer: Microchip; PartNumber: PIC16LV54A-02/SO; Digital Communication: 0 -UART, 0 -A/E/USART, 0 -SPI, 0 -I2C; I/O Pins: 12; Max. CPU Speed MHz: 2; Memory Type: OTP; Operation Voltage Range: 2.0V - 3.8V; Program Memory KBytes: 0.75; Program Memory KWords: 0.5; RAM: 25; Timers: 1 - 8-bit, 0 - 16-bit, 0 - 32-bit; DatasheetVersion: Rev. KE; PackageVersion: C04-051C, 12/2012; PackageReference: SOIC-SO18; PackageDescription: 18-Lead Plastic Small Outline, 7.5 x 11.55 mm Body, 1.27 mm Pitch; Supplier 1: Digi-Key; Supplier Part Number 1: PIC16LV54A-02/SO-ND; Supplier 2: Mouser; Supplier Part Number 2: 579-PIC16LV54A-02/SO; Packing: TUBE; Mounting Technology: Surface Mount; ComponentLink1Description: Datasheet; ComponentLink1URL: http://ww1.microchip.com/downloads/en/DeviceDoc/30453E.pdf; ComponentLink2Description: Package Specification; ComponentLink2URL: http://www.microchip.com/stellent/groups/techpub_sg/documents/packagingspec/en012702.pdf; ComponentLink3Description: URL Link1; ComponentLink3URL: Product URL:http://www.microchip.com/datasheet/PIC16C54A
footprint MCHP-SOIC-SO18_N (SOIC, 18-Leads, Body 11.55x7.5mm, Pitch 1.27mm, IPC Medium Density)
footprint MCHP-SOIC-SO18_L (SOIC, 18-Leads, Body 11.55x7.5mm, Pitch 1.27mm, IPC High Density)
footprint MCHP-SOIC-SO18_M (SOIC, 18-Leads, Body 11.55x7.5mm, Pitch 1.27mm, IPC Low Density)
pins: 1 RA2 (io) "Bi-directional I/O port", 2 RA3 (io) "Bi-directional I/O port", 3 T0CKI (in) "Clock input to Timer0. Must be tied to VSS or VDD, if not in use, to reduce current consumption.", 4 ~{MCLR}/VPP (in), 5 VSS (power) "Ground reference for logic and I/O pins.", 6 RB0 (io) "Bi-directional I/O port", 7 RB1 (io) "Bi-directional I/O port", 8 RB2 (io) "Bi-directional I/O port", 9 RB3 (io) "Bi-directional I/O port", 10 RB4 (io) "Bi-directional I/O port", 11 RB5 (io) "Bi-directional I/O port", 12 RB6 (io) "Bi-directional I/O port", 13 RB7 (io) "Bi-directional I/O port", 14 VDD (power) "Positive supply for logic and I/O pins.", 15 OSC2/CLKOUT (out), 16 OSC1/CLKIN (in), 17 RA0 (io) "Bi-directional I/O port", 18 RA1 (io) "Bi-directional I/O port"

## PIC16LV54A-02/SS
designator U?
EPROM / ROM-Based 8-Bit CMOS Microcontroller Series, 2 MHz, 12 I/O, 0 to 70 degC, 20-pin SSOP (SS20), Tube; Manufacturer: Microchip; PartNumber: PIC16LV54A-02/SS; Digital Communication: 0 -UART, 0 -A/E/USART, 0 -SPI, 0 -I2C; I/O Pins: 12; Max. CPU Speed MHz: 2; Memory Type: OTP; Operation Voltage Range: 3V - 6.25V; Program Memory KBytes: 0.75; Program Memory KWords: 0.5; RAM: 25; Timers: 1 - 8-bit, 0 - 16-bit, 0 - 32-bit; DatasheetVersion: Rev. KE; PackageVersion: C04-072B, 12/2012; PackageReference: SSOP-SS20; PackageDescription: 20-Lead Plastic Shrink Small Outline, 5.3 x 7.2 mm Body, 0.65 mm Pitch; Supplier 1: Digi-Key; Supplier Part Number 1: PIC16LV54A-02/SS-ND; Supplier 2: Mouser; Supplier Part Number 2: 579-PIC16LV54A-02/SS; Packing: TUBE; Mounting Technology: Surface Mount; ComponentLink1Description: Datasheet; ComponentLink1URL: http://ww1.microchip.com/downloads/en/DeviceDoc/30453E.pdf; ComponentLink2Description: Package Specification; ComponentLink2URL: http://www.microchip.com/stellent/groups/techpub_sg/documents/packagingspec/en012702.pdf; ComponentLink3Description: URL Link1; ComponentLink3URL: Product URL:http://www.microchip.com/datasheet/PIC16C54A
footprint MCHP-SSOP-SS20_N (SOP, 20-Leads, Body 7.2x5.3mm, Pitch 0.65mm, IPC Medium Density)
footprint MCHP-SSOP-SS20_L (SOP, 20-Leads, Body 7.2x5.3mm, Pitch 0.65mm, IPC High Density)
footprint MCHP-SSOP-SS20_M (SOP, 20-Leads, Body 7.2x5.3mm, Pitch 0.65mm, IPC Low Density)
pins: 1 RA2 (io) "Bi-directional I/O port", 2 RA3 (io) "Bi-directional I/O port", 3 T0CKI (in) "Clock input to Timer0. Must be tied to VSS or VDD, if not in use, to reduce current consumption.", 4 ~{MCLR}/VPP (in), 5 VSS (power) "Ground reference for logic and I/O pins.", 6 VSS (power) "Ground reference for logic and I/O pins.", 7 RB0 (io) "Bi-directional I/O port", 8 RB1 (io) "Bi-directional I/O port", 9 RB2 (io) "Bi-directional I/O port", 10 RB3 (io) "Bi-directional I/O port", 11 RB4 (io) "Bi-directional I/O port", 12 RB5 (io) "Bi-directional I/O port", 13 RB6 (io) "Bi-directional I/O port", 14 RB7 (io) "Bi-directional I/O port", 15 VDD (power) "Positive supply for logic and I/O pins.", 16 VDD (power) "Positive supply for logic and I/O pins.", 17 OSC2/CLKOUT (out), 18 OSC1/CLKIN (in), 19 RA0 (io) "Bi-directional I/O port", 20 RA1 (io) "Bi-directional I/O port"

## PIC16LV54A-02I/P
designator U?
EPROM / ROM-Based 8-Bit CMOS Microcontroller Series, 2 MHz, 12 I/O, -40 to 85 degC, 18-pin PDIP (P18), Tube; Manufacturer: Microchip; PartNumber: PIC16LV54A-02I/P; Digital Communication: 0 -UART, 0 -A/E/USART, 0 -SPI, 0 -I2C; I/O Pins: 12; Max. CPU Speed MHz: 2; Memory Type: OTP; Operation Voltage Range: 2.0V - 3.8V; Program Memory KBytes: 0.75; Program Memory KWords: 0.5; RAM: 25; Timers: 1 - 8-bit, 0 - 16-bit, 0 - 32-bit; DatasheetVersion: Rev. KE; PackageVersion: C04-007B, 12/2012; PackageReference: PDIP-P18; PackageDescription: 18-Lead Plastic Dual In-Line, Row Spacing 7.62 mm, 22.86 x 6.6 mm Body, 2.54 mm Pitch; Supplier 1: Digi-Key; Supplier Part Number 1: PIC16LV54A-02I/P-ND; Supplier 2: Mouser; Supplier Part Number 2: 579-PIC16LV54A-02I/P; Packing: TUBE; Mounting Technology: Through Hole; ComponentLink1Description: Datasheet; ComponentLink1URL: http://ww1.microchip.com/downloads/en/DeviceDoc/30453E.pdf; ComponentLink2Description: Package Specification; ComponentLink2URL: http://www.microchip.com/stellent/groups/techpub_sg/documents/packagingspec/en012702.pdf; ComponentLink3Description: URL Link1; ComponentLink3URL: Product URL:http://www.microchip.com/datasheet/PIC16C54A
footprint MCHP-PDIP-P18 (DIP, 18-Leads, Body 22.83x6.604mm, Pitch 2.54mm)
pins: 1 RA2 (io) "Bi-directional I/O port", 2 RA3 (io) "Bi-directional I/O port", 3 T0CKI (in) "Clock input to Timer0. Must be tied to VSS or VDD, if not in use, to reduce current consumption.", 4 ~{MCLR}/VPP (in), 5 VSS (power) "Ground reference for logic and I/O pins.", 6 RB0 (io) "Bi-directional I/O port", 7 RB1 (io) "Bi-directional I/O port", 8 RB2 (io) "Bi-directional I/O port", 9 RB3 (io) "Bi-directional I/O port", 10 RB4 (io) "Bi-directional I/O port", 11 RB5 (io) "Bi-directional I/O port", 12 RB6 (io) "Bi-directional I/O port", 13 RB7 (io) "Bi-directional I/O port", 14 VDD (power) "Positive supply for logic and I/O pins.", 15 OSC2/CLKOUT (out), 16 OSC1/CLKIN (in), 17 RA0 (io) "Bi-directional I/O port", 18 RA1 (io) "Bi-directional I/O port"

## PIC16LV54A-02I/SO
designator U?
EPROM / ROM-Based 8-Bit CMOS Microcontroller Series, 2 MHz, 12 I/O, -40 to 85 degC, 18-pin SOIC (SO18), Tube; Manufacturer: Microchip; PartNumber: PIC16LV54A-02I/SO; Digital Communication: 0 -UART, 0 -A/E/USART, 0 -SPI, 0 -I2C; I/O Pins: 12; Max. CPU Speed MHz: 2; Memory Type: OTP; Operation Voltage Range: 3V - 6.25V; Program Memory KBytes: 0.75; Program Memory KWords: 0.5; RAM: 25; Timers: 1 - 8-bit, 0 - 16-bit, 0 - 32-bit; DatasheetVersion: Rev. KE; PackageVersion: C04-051C, 12/2012; PackageReference: SOIC-SO18; PackageDescription: 18-Lead Plastic Small Outline, 7.5 x 11.55 mm Body, 1.27 mm Pitch; Supplier 1: Digi-Key; Supplier Part Number 1: PIC16LV54A-02I/SO-ND; Supplier 2: Mouser; Supplier Part Number 2: 579-16LV54A-02I/SO; Packing: TUBE; Mounting Technology: Surface Mount; ComponentLink1Description: Datasheet; ComponentLink1URL: http://ww1.microchip.com/downloads/en/DeviceDoc/30453E.pdf; ComponentLink2Description: Package Specification; ComponentLink2URL: http://www.microchip.com/stellent/groups/techpub_sg/documents/packagingspec/en012702.pdf; ComponentLink3Description: URL Link1; ComponentLink3URL: Product URL:http://www.microchip.com/datasheet/PIC16C54A
footprint MCHP-SOIC-SO18_N (SOIC, 18-Leads, Body 11.55x7.5mm, Pitch 1.27mm, IPC Medium Density)
footprint MCHP-SOIC-SO18_L (SOIC, 18-Leads, Body 11.55x7.5mm, Pitch 1.27mm, IPC High Density)
footprint MCHP-SOIC-SO18_M (SOIC, 18-Leads, Body 11.55x7.5mm, Pitch 1.27mm, IPC Low Density)
pins: 1 RA2 (io) "Bi-directional I/O port", 2 RA3 (io) "Bi-directional I/O port", 3 T0CKI (in) "Clock input to Timer0. Must be tied to VSS or VDD, if not in use, to reduce current consumption.", 4 ~{MCLR}/VPP (in), 5 VSS (power) "Ground reference for logic and I/O pins.", 6 RB0 (io) "Bi-directional I/O port", 7 RB1 (io) "Bi-directional I/O port", 8 RB2 (io) "Bi-directional I/O port", 9 RB3 (io) "Bi-directional I/O port", 10 RB4 (io) "Bi-directional I/O port", 11 RB5 (io) "Bi-directional I/O port", 12 RB6 (io) "Bi-directional I/O port", 13 RB7 (io) "Bi-directional I/O port", 14 VDD (power) "Positive supply for logic and I/O pins.", 15 OSC2/CLKOUT (out), 16 OSC1/CLKIN (in), 17 RA0 (io) "Bi-directional I/O port", 18 RA1 (io) "Bi-directional I/O port"